# Altium footprint library PCB - LEADED - SOT-23 - FAIRCHILD SOT-23-6 SUPERSOT-6.PCBLIB: 1 footprints
Each footprint in its own frame and in the unit in brackets; x right, y up, seen from the top. Pads: shape width x height; smd on the part's side, far side on the other; paste and mask are expansions set on the pad; w line width, h text height; cw(c..) or ccw(c..) is an arc to the next point about the centre after c.
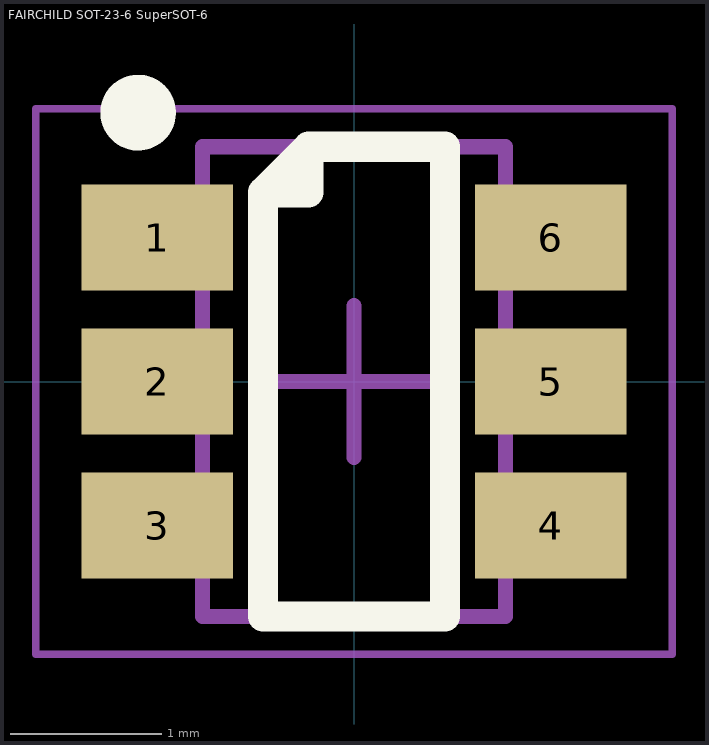
[diagram p0: the footprint, top view; thin cyan lines are the x and y axes]

## FAIRCHILD SOT-23-6 SuperSOT-6 [mm] "SOT23, 6-Leads, Body 2.9x1.6mm, Pitch 0.95mm, IPC Medium Density"
height 1.1
pads (6):
  rect 1x0.7 smd: 1(-1.3,0.95) 2(-1.3,0) 3(-1.3,-0.95) 4(1.3,-0.95) 5(1.3,0) 6(1.3,0.95)
Top Overlay:
  circle w0.25: c-1.425,1.775 r0.125
  lines w0.2: -0.6,1.25 -0.3,1.55 ; -0.6,1.25 -0.6,-1.55 0.6,-1.55 0.6,1.55 -0.3,1.55 ; -0.6,1.25 -0.3,1.25 -0.3,1.55
Mechanical 13:
  lines w0.1: -1,-1.55 -1,1.55 1,1.55 1,-1.55 -1,-1.55
Mechanical 15:
  lines w0.05: -2.1,-1.8 -2.1,1.8 2.1,1.8 2.1,-1.8 -2.1,-1.8
Mechanical 2 (Mech9):
  lines w0.1: -0.5,0 0.5,0 ; 0,-0.5 0,0.5
3D body "sot-23-6-fairchild.STEP": height 1.45, standoff 0, extent -1.46,-1.45 1.461,1.45